# EAGLE library part VPP28-720 (library STM_Library)
Dual winding transformer 120V/34V
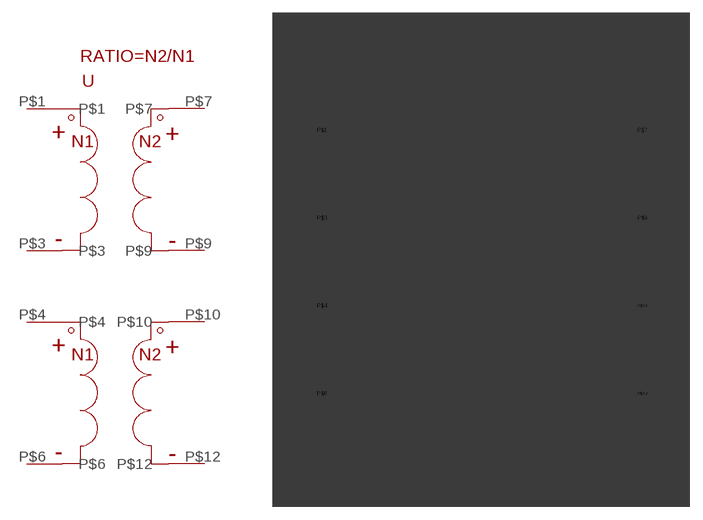
[diagram p7: symbol with the pads of VPP28; footprint VPP28]

Designator prefix -

## VPP28-720  [VPP28]
P$1  P$1
P$3  P$3
P$4  P$4
P$6  P$6
P$7  P$7
P$9  P$9
P$10  P$10
P$12  P$12

## Footprint VPP28 (pad centres in mm)
drill 0.6 square: P$1 0,0; P$3 0,-10.16; P$4 0,-20.32; P$6 0,-30.48; P$7 37.084,0; P$9 37.084,-10.16; P$10 37.084,-20.32; P$12 37.084,-30.48
hole 2.845 at 0,-15.24
hole 2.845 at 36.83,-15.24